# EAGLE library part KC_6PIN_5MM (library thecustomgeek)
Part 158-P065EHDRCH-E from Kobiconn. Goes with part 158-P065ESDVP-E. 5mm pitch 6 position through hole right angle connector.
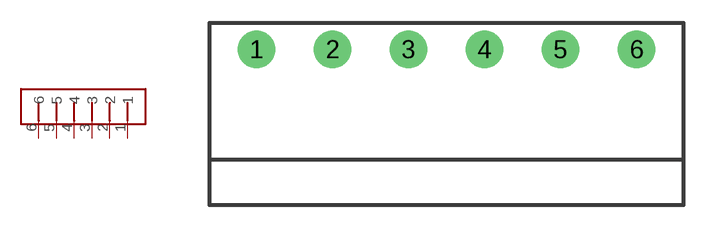
[diagram p3: symbol with the pads of KC_6PIN_5MM; footprint KC_6PIN_5MM]

Designator prefix -

## KC_6PIN_5MM  [KC_6PIN_5MM]
1  1
2  2
3  3
4  4
5  5
6  6

## Footprint KC_6PIN_5MM (pad centres in mm)
drill 1.65: 1 -12.5,7.3; 2 -7.5,7.3; 3 -2.5,7.3; 4 2.5,7.3; 5 7.5,7.3; 6 12.5,7.3